# Altium footprint library CMUDM8005_TR_(SOT523).PcbLib: 1 footprints
Each footprint in its own frame and in the unit in brackets; x right, y up, seen from the top. Pads: shape width x height; smd on the part's side, far side on the other; paste and mask are expansions set on the pad; w line width, h text height; cw(c..) or ccw(c..) is an arc to the next point about the centre after c.
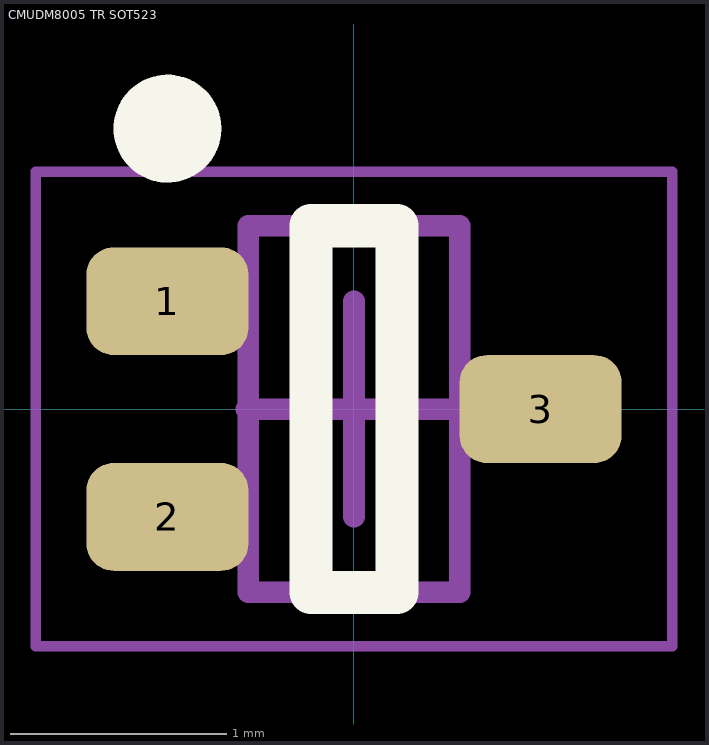
[diagram p0: the footprint, top view; thin cyan lines are the x and y axes]

## CMUDM8005 TR SOT523 [mm] "SOT523, 3-Leads, Body 1.60x1.60mm (avg), Pitch 1.00mm, IPC Medium Density"
height 0.78
pads (3):
  rrect50% 0.75x0.5 smd: 1(-0.865,0.5) 2(-0.865,-0.5) 3(0.865,0)
Top Overlay:
  circle w0.25: c-0.865,1.3 r0.125
  lines w0.2: -0.2,-0.85 -0.2,0.85 0.2,0.85 0.2,-0.85 -0.2,-0.85
Assembly Top:
  lines w0.1: -0.49,-0.85 -0.49,0.85 0.49,0.85 0.49,-0.85 -0.49,-0.85
Courtyard Top:
  lines w0.05: -1.475,-1.1 -1.475,1.1 1.475,1.1 1.475,-1.1 -1.475,-1.1
  lines w0.1: -0.5,0 0.5,0 ; 0,-0.5 0,0.5
3D body: height 0.78, standoff 0.04, extent -0.49,-0.85 0.49,0.85